# EAGLE library part HLK-7688A (library ali_modules)
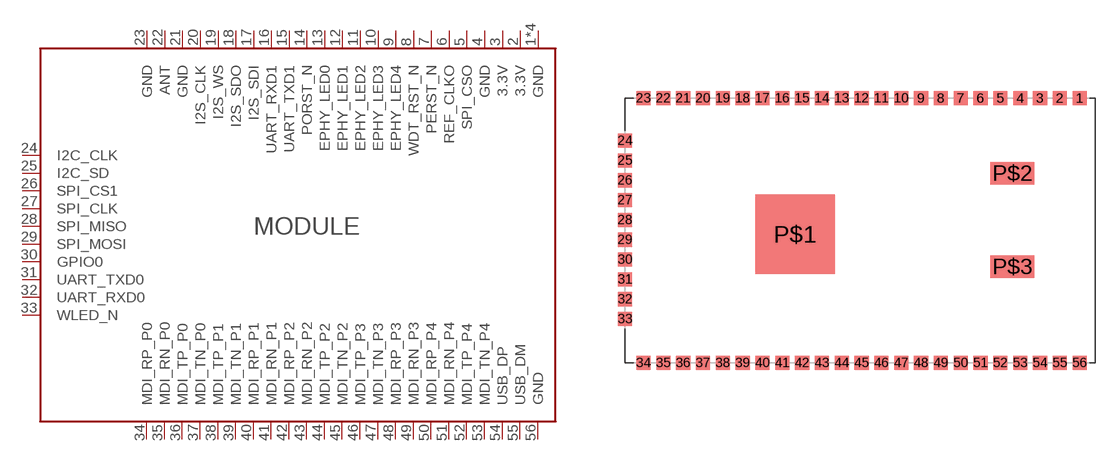
[diagram p5: symbol with the pads of HLK-7688A; footprint HLK-7688A]

Designator prefix MODULE

## HLK-7688A (MANF: Hi-link; MANF#: HLK-7688A)  [HLK-7688A]
1  GND
2  3.3V
3  3.3V
4  GND
5  SPI_CSO
6  REF_CLKO
7  PERST_N
8  WDT_RST_N
9  EPHY_LED4
10  EPHY_LED3
11  EPHY_LED2
12  EPHY_LED1
13  EPHY_LED0
14  PORST_N
15  UART_TXD1
16  UART_RXD1
17  I2S_SDI
18  I2S_SDO
19  I2S_WS
20  I2S_CLK
21  GND
22  ANT
23  GND
24  I2C_CLK
25  I2C_SD
26  SPI_CS1
27  SPI_CLK
28  SPI_MISO
29  SPI_MOSI
30  GPIO0
31  UART_TXD0
32  UART_RXD0
33  WLED_N
34  MDI_RP_P0
35  MDI_RN_P0
36  MDI_TP_P0
37  MDI_TN_P0
38  MDI_TP_P1
39  MDI_TN_P1
40  MDI_RP_P1
41  MDI_RN_P1
42  MDI_RP_P2
43  MDI_RN_P2
44  MDI_TP_P2
45  MDI_TN_P2
46  MDI_TP_P3
47  MDI_TN_P3
48  MDI_RP_P3
49  MDI_RN_P3
50  MDI_RP_P4
51  MDI_RN_P4
52  MDI_TP_P4
53  MDI_TN_P4
54  USB_DP
55  USB_DM
56  GND
P$1  GND
P$2  GND
P$3  GND

## Footprint HLK-7688A (pad centres in mm)
smd 1 x 1: 1 15.5,9.35; 2 14.1,9.35; 3 12.7,9.35; 4 11.3,9.35; 5 9.9,9.35; 6 8.5,9.35; 7 7.1,9.35; 8 5.7,9.35; 9 4.3,9.35; 10 2.9,9.35; 11 1.5,9.35; 12 0.1,9.35; 13 -1.3,9.35; 14 -2.7,9.35; 15 -4.1,9.35; 16 -5.5,9.35; 17 -6.9,9.35; 18 -8.3,9.35; 19 -9.7,9.35; 20 -11.1,9.35; 21 -12.5,9.35; 22 -13.9,9.35; 23 -15.3,9.35; 24 -16.6,6.35; 25 -16.6,4.95; 26 -16.6,3.55; 27 -16.6,2.15; 28 -16.6,0.75; 29 -16.6,-0.65; 30 -16.6,-2.05; 31 -16.6,-3.45; 32 -16.6,-4.85; 33 -16.6,-6.25; 34 -15.3,-9.35; 35 -13.9,-9.35; 36 -12.5,-9.35; 37 -11.1,-9.35; 38 -9.7,-9.35; 39 -8.3,-9.35; 40 -6.9,-9.35; 41 -5.5,-9.35; 42 -4.1,-9.35; 43 -2.7,-9.35; 44 -1.3,-9.35; 45 0.1,-9.35; 46 1.5,-9.35; 47 2.9,-9.35; 48 4.3,-9.35; 49 5.7,-9.35; 50 7.1,-9.35; 51 8.5,-9.35; 52 9.9,-9.35; 53 11.3,-9.35; 54 12.7,-9.35; 55 14.1,-9.35; 56 15.5,-9.35
smd 5.6 x 5.6: P$1 -4.6,-0.25
smd 3.1 x 1.6: P$2 10.75,4.05; P$3 10.75,-2.55